# Altium integrated library Linear Technology Power Management Switching Regulator LTC1174-LTC3901.IntLib: 2647 symbols (part 304 of 364)
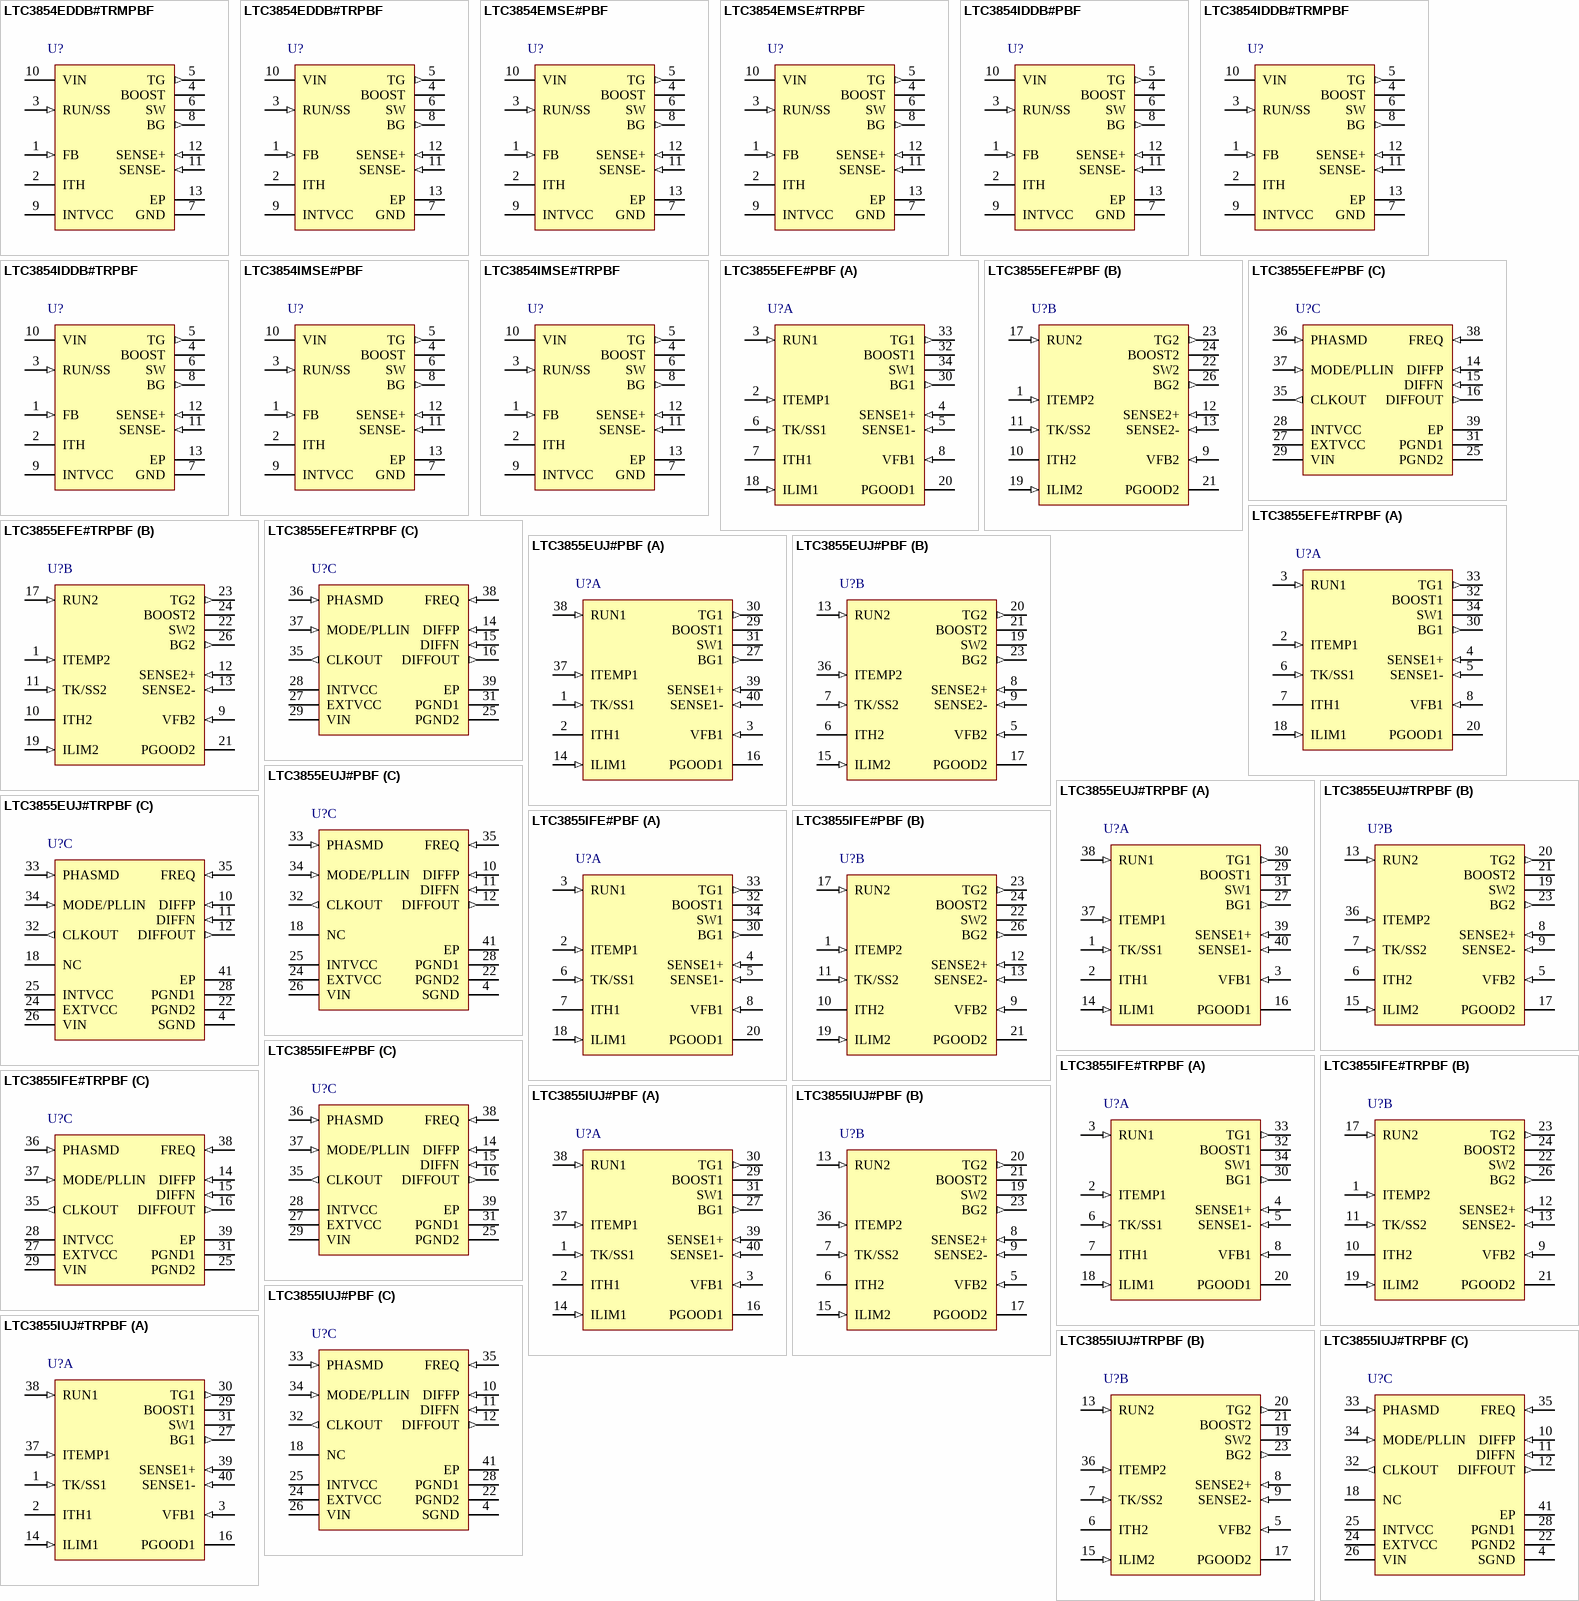
[diagram p274: symbols LTC3854EDDB#TRMPBF to LTC3855IUJ#TRPBF]

## LTC3855IFE#PBF
designator U?
Dual, Multiphase Synchronous DC/DC Controller with Differential Remote Sense, 38-pin SOP (FE-38-EPV-AA), -40 to 125 degC, Pb-Free; Manufacturer: Linear Technology; PartNumber: LTC3855IFE#PBF; Frequency Sync Range: 250kHz - 770kHz; Number of Outputs: 2; PackageVersion: Rev. C, 09/2010; PackageReference: FE-38; PackageDescription: 38-Pin Plastic TSSOP, Body 9.7 x 4.4 mm, Pitch 0.5 mm; Supplier 1: Digi-Key; Supplier Part Number 1: LTC3855IFE#PBF-ND; RoHS: TRUE; Mounting Technology: Surface Mount; ComponentLink1Description: Manufacturer URL; ComponentLink1URL: http://www.linear.com/; ComponentLink2Description: Datasheet; ComponentLink2URL: http://cds.linear.com/docs/en/datasheet/3855f.pdf; ComponentLink3Description: Package Specification; ComponentLink3URL: http://cds.linear.com/docs/en/packaging/TSSOP_38_05-08-1772.pdf
footprint LT-FE-38-EPV-AA_N (SOP, 38-Leads, Body 9.8x4.5mm, Pitch 0.5mm, Thermal Pad 4.75x2.74mm, IPC Medium Density)
footprint LT-FE-38-EPV-AA_L (SOP, 38-Leads, Body 9.8x4.5mm, Pitch 0.5mm, Thermal Pad 4.75x2.74mm, IPC High Density)
footprint LT-FE-38-EPV-AA_M (SOP, 38-Leads, Body 9.8x4.5mm, Pitch 0.5mm, Thermal Pad 4.75x2.74mm, IPC Low Density)
part A pins: 2 ITEMP1 (in) "Inputs of the temperature sensing comparators. Connect each of these pins to external NTC resistors placed near inductors. Floating these pins disables the DCR temperature compensation function.", 3 RUN1 (in) "Run Control Inputs. A voltage above 1.2V on either pin turns on the IC. However, forcing either of these pins below 1.2V causes the IC to shut down the circuitry required for that particular channel. There are 1uA pull-up (See Datasheet)", 4 SENSE1+ (in) "Current Sense Comparator Inputs. The (+) inputs to the current comparators are normally connected to DCR sensing networks or current sensing resistors.", 5 SENSE1- (in) "Current Sense Comparator Inputs. The (-) inputs to the current comparators are connected to the outputs.", 6 TK/SS1 (in) "Output Voltage Tracking and Soft-Start Inputs. When one particular channel is configured to be the master of two channels, a capacitor to ground at this pin sets the ramp rate for the master channel’s output voltage. Whe(See Datasheet)", 7 ITH1 "Current Control Thresholds and Error Amplifier Compensation Points. Each associated channels?current comparator tripping threshold increases with its ITH control voltage.", 8 VFB1 (in) "Error Amplifier Feedback Inputs. These pins receive the remotely sensed feedback voltages for each channel from external resistive dividers across the outputs.", 18 ILIM1 (in) "Current Comparator Sense Voltage Range Inputs. This pin can be tied to SGND, tied to INTVCC or left floating to set the maximum current sense threshold for each comparator", 20 PGOOD1 (oc) "Power Good Indicator Output for Each Channel. Open drain logic out that is pulled to ground when either channel output exceeds +/-10% regulation window, after the internal 20us power bad mask timer expires.", 30 BG1 (out) "Bottom Gate Driver Outputs. These pins drive the gates of the bottom N-Channel MOSFETs between PGND and INTVCC", 32 BOOST1 "Boosted Floating Driver Supplies. The (+) terminal of the bootstrap capacitors connect to these pins. These pins swing from a diode voltage drop below INTVCC up to VIN + INTVCC", 33 TG1 (out) "Top Gate Driver Outputs. These are the outputs of floating drivers with a voltage swing equal to INTVCC superimposed on the switch nodes voltages.", 34 SW1 "Switch Node Connections to Inductors. Voltage swing at these pins is from a Schottky diode (external) voltage drop below ground to VIN."
part B pins: 1 ITEMP2 (in) "Inputs of the temperature sensing comparators. Connect each of these pins to external NTC resistors placed near inductors. Floating these pins disables the DCR temperature compensation function.", 9 VFB2 (in) "Error Amplifier Feedback Inputs. These pins receive the remotely sensed feedback voltages for each channel from external resistive dividers across the outputs.", 10 ITH2 "Current Control Thresholds and Error Amplifier Compensation Points. Each associated channels?current comparator tripping threshold increases with its ITH control voltage.", 11 TK/SS2 (in) "Output Voltage Tracking and Soft-Start Inputs. When one particular channel is configured to be the master of two channels, a capacitor to ground at this pin sets the ramp rate for the master channel’s output voltage. Whe(See Datasheet)", 12 SENSE2+ (in) "Current Sense Comparator Inputs. The (+) inputs to the current comparators are normally connected to DCR sensing networks or current sensing resistors.", 13 SENSE2- (in) "Current Sense Comparator Inputs. The (-) inputs to the current comparators are connected to the outputs.", 17 RUN2 (in) "Run Control Inputs. A voltage above 1.2V on either pin turns on the IC. However, forcing either of these pins below 1.2V causes the IC to shut down the circuitry required for that particular channel. There are 1uA pull-up (See Datasheet)", 19 ILIM2 (in) "Current Comparator Sense Voltage Range Inputs. This pin can be tied to SGND, tied to INTVCC or left floating to set the maximum current sense threshold for each comparator", 21 PGOOD2 (oc) "Power Good Indicator Output for Each Channel. Open drain logic out that is pulled to ground when either channel output exceeds +/-10% regulation window, after the internal 20us power bad mask timer expires.", 22 SW2 "Switch Node Connections to Inductors. Voltage swing at these pins is from a Schottky diode (external) voltage drop below ground to VIN.", 23 TG2 (out) "Top Gate Driver Outputs. These are the outputs of floating drivers with a voltage swing equal to INTVCC superimposed on the switch nodes voltages.", 24 BOOST2 "Boosted Floating Driver Supplies. The (+) terminal of the bootstrap capacitors connect to these pins. These pins swing from a diode voltage drop below INTVCC up to VIN + INTVCC", 26 BG2 (out) "Bottom Gate Driver Outputs. These pins drive the gates of the bottom N-Channel MOSFETs between PGND and INTVCC"
part C pins: 14 DIFFP (in) "Positive Input of Remote Sensing Differential Amplifier. Connect this to the remote load voltage of one of the two channels directly.", 15 DIFFN (in) "Negative Input of Remote Sensing Differential Amplifier. Connect this to the negative terminal of the output capacitors.", 16 DIFFOUT (out) "Output of Remote Sensing Differential Amplifier. Connect this to VFB1 or VFB2 through a resistive divider.", 25 PGND2 (power) "Power Ground Pin. Connect this pin closely to the sources of the bottom N-channel MOSFETs, the (-) terminal of CVCC and the (-) terminal of CIN.", 27 EXTVCC (power) "External Power Input to an Internal Switch Connected to INTVCC. This switch closes and supplies the IC power, bypassing the internal low dropout regulator, whenever EXTVCC is higher than 4.7V. Do not exceed 6V on this pin.", 28 INTVCC (power) "Internal 5V Regulator Output. The control circuits are powered from this voltage. Decouple this pin to PGND with a minimum of 4.7uF low ESR tantalum or ceramic capacitor.", 29 VIN (power) "Main Input Supply. Decouple this pin to PGND with a capacitor (0.1uF to 1uF).", 31 PGND1 (power) "Power Ground Pin. Connect this pin closely to the sources of the bottom N-channel MOSFETs, the (-) terminal of CVCC and the (-) terminal of CIN.", 35 CLKOUT (out) "Clock output with phase changeable by PHASMD to enable usage of multiple LTC3855 in multiphase systems.", 36 PHASMD (in) "This pin can be tied to SGND, tied to INTVCC or left floating. This pin determines the relative phases between the internal controllers as well as the phasing of the CLKOUT signal. See Table 1 in the Operation section.", 37 MODE/PLLIN (in) "This is a dual purpose pin. When external frequency synchronization is not used, this pin selects the operating mode. The pin can be tied to SGND, tied to INTVCC or left floating. SGND enables forced continuous mode. INTVCC (See Datasheet)", 38 FREQ (in) "There is a precision 10uA current flowing out of this pin. A resistor to ground sets a voltage which in turn programs the frequency. Alternatively, this pin can be driven with a DC voltage to vary the frequency of the (See Datasheet)", 39 EP (power) "Signal Ground. All small-signal components and compensation components should connect to this ground, which in turn connects to PGND at one point. Exposed pad must be soldered to PCB, providing a local ground for the control (See Datasheet)"

## LTC3855IFE#TRPBF
designator U?
Dual, Multiphase Synchronous DC/DC Controller with Differential Remote Sense, 38-pin SOP (FE-38-EPV-AA), -40 to 125 degC, Pb-Free, Tape and Reel; Manufacturer: Linear Technology; PartNumber: LTC3855IFE#TRPBF; Frequency Sync Range: 250kHz - 770kHz; Number of Outputs: 2; PackageVersion: Rev. C, 09/2010; PackageReference: FE-38; PackageDescription: 38-Pin Plastic TSSOP, Body 9.7 x 4.4 mm, Pitch 0.5 mm; Supplier 1: Digi-Key; Supplier Part Number 1: LTC3855IFE#TRPBF-ND; Packing: Tape and Reel; RoHS: TRUE; Mounting Technology: Surface Mount; ComponentLink1Description: Manufacturer URL; ComponentLink1URL: http://www.linear.com/; ComponentLink2Description: Datasheet; ComponentLink2URL: http://cds.linear.com/docs/en/datasheet/3855f.pdf; ComponentLink3Description: Package Specification; ComponentLink3URL: http://cds.linear.com/docs/en/packaging/TSSOP_38_05-08-1772.pdf
footprint LT-FE-38-EPV-AA_N (SOP, 38-Leads, Body 9.8x4.5mm, Pitch 0.5mm, Thermal Pad 4.75x2.74mm, IPC Medium Density)
footprint LT-FE-38-EPV-AA_L (SOP, 38-Leads, Body 9.8x4.5mm, Pitch 0.5mm, Thermal Pad 4.75x2.74mm, IPC High Density)
footprint LT-FE-38-EPV-AA_M (SOP, 38-Leads, Body 9.8x4.5mm, Pitch 0.5mm, Thermal Pad 4.75x2.74mm, IPC Low Density)
part A pins: 2 ITEMP1 (in) "Inputs of the temperature sensing comparators. Connect each of these pins to external NTC resistors placed near inductors. Floating these pins disables the DCR temperature compensation function.", 3 RUN1 (in) "Run Control Inputs. A voltage above 1.2V on either pin turns on the IC. However, forcing either of these pins below 1.2V causes the IC to shut down the circuitry required for that particular channel. There are 1uA pull-up (See Datasheet)", 4 SENSE1+ (in) "Current Sense Comparator Inputs. The (+) inputs to the current comparators are normally connected to DCR sensing networks or current sensing resistors.", 5 SENSE1- (in) "Current Sense Comparator Inputs. The (-) inputs to the current comparators are connected to the outputs.", 6 TK/SS1 (in) "Output Voltage Tracking and Soft-Start Inputs. When one particular channel is configured to be the master of two channels, a capacitor to ground at this pin sets the ramp rate for the master channel’s output voltage. Whe(See Datasheet)", 7 ITH1 "Current Control Thresholds and Error Amplifier Compensation Points. Each associated channels?current comparator tripping threshold increases with its ITH control voltage.", 8 VFB1 (in) "Error Amplifier Feedback Inputs. These pins receive the remotely sensed feedback voltages for each channel from external resistive dividers across the outputs.", 18 ILIM1 (in) "Current Comparator Sense Voltage Range Inputs. This pin can be tied to SGND, tied to INTVCC or left floating to set the maximum current sense threshold for each comparator", 20 PGOOD1 (oc) "Power Good Indicator Output for Each Channel. Open drain logic out that is pulled to ground when either channel output exceeds +/-10% regulation window, after the internal 20us power bad mask timer expires.", 30 BG1 (out) "Bottom Gate Driver Outputs. These pins drive the gates of the bottom N-Channel MOSFETs between PGND and INTVCC", 32 BOOST1 "Boosted Floating Driver Supplies. The (+) terminal of the bootstrap capacitors connect to these pins. These pins swing from a diode voltage drop below INTVCC up to VIN + INTVCC", 33 TG1 (out) "Top Gate Driver Outputs. These are the outputs of floating drivers with a voltage swing equal to INTVCC superimposed on the switch nodes voltages.", 34 SW1 "Switch Node Connections to Inductors. Voltage swing at these pins is from a Schottky diode (external) voltage drop below ground to VIN."
part B pins: 1 ITEMP2 (in) "Inputs of the temperature sensing comparators. Connect each of these pins to external NTC resistors placed near inductors. Floating these pins disables the DCR temperature compensation function.", 9 VFB2 (in) "Error Amplifier Feedback Inputs. These pins receive the remotely sensed feedback voltages for each channel from external resistive dividers across the outputs.", 10 ITH2 "Current Control Thresholds and Error Amplifier Compensation Points. Each associated channels?current comparator tripping threshold increases with its ITH control voltage.", 11 TK/SS2 (in) "Output Voltage Tracking and Soft-Start Inputs. When one particular channel is configured to be the master of two channels, a capacitor to ground at this pin sets the ramp rate for the master channel’s output voltage. Whe(See Datasheet)", 12 SENSE2+ (in) "Current Sense Comparator Inputs. The (+) inputs to the current comparators are normally connected to DCR sensing networks or current sensing resistors.", 13 SENSE2- (in) "Current Sense Comparator Inputs. The (-) inputs to the current comparators are connected to the outputs.", 17 RUN2 (in) "Run Control Inputs. A voltage above 1.2V on either pin turns on the IC. However, forcing either of these pins below 1.2V causes the IC to shut down the circuitry required for that particular channel. There are 1uA pull-up (See Datasheet)", 19 ILIM2 (in) "Current Comparator Sense Voltage Range Inputs. This pin can be tied to SGND, tied to INTVCC or left floating to set the maximum current sense threshold for each comparator", 21 PGOOD2 (oc) "Power Good Indicator Output for Each Channel. Open drain logic out that is pulled to ground when either channel output exceeds +/-10% regulation window, after the internal 20us power bad mask timer expires.", 22 SW2 "Switch Node Connections to Inductors. Voltage swing at these pins is from a Schottky diode (external) voltage drop below ground to VIN.", 23 TG2 (out) "Top Gate Driver Outputs. These are the outputs of floating drivers with a voltage swing equal to INTVCC superimposed on the switch nodes voltages.", 24 BOOST2 "Boosted Floating Driver Supplies. The (+) terminal of the bootstrap capacitors connect to these pins. These pins swing from a diode voltage drop below INTVCC up to VIN + INTVCC", 26 BG2 (out) "Bottom Gate Driver Outputs. These pins drive the gates of the bottom N-Channel MOSFETs between PGND and INTVCC"
part C pins: 14 DIFFP (in) "Positive Input of Remote Sensing Differential Amplifier. Connect this to the remote load voltage of one of the two channels directly.", 15 DIFFN (in) "Negative Input of Remote Sensing Differential Amplifier. Connect this to the negative terminal of the output capacitors.", 16 DIFFOUT (out) "Output of Remote Sensing Differential Amplifier. Connect this to VFB1 or VFB2 through a resistive divider.", 25 PGND2 (power) "Power Ground Pin. Connect this pin closely to the sources of the bottom N-channel MOSFETs, the (-) terminal of CVCC and the (-) terminal of CIN.", 27 EXTVCC (power) "External Power Input to an Internal Switch Connected to INTVCC. This switch closes and supplies the IC power, bypassing the internal low dropout regulator, whenever EXTVCC is higher than 4.7V. Do not exceed 6V on this pin.", 28 INTVCC (power) "Internal 5V Regulator Output. The control circuits are powered from this voltage. Decouple this pin to PGND with a minimum of 4.7uF low ESR tantalum or ceramic capacitor.", 29 VIN (power) "Main Input Supply. Decouple this pin to PGND with a capacitor (0.1uF to 1uF).", 31 PGND1 (power) "Power Ground Pin. Connect this pin closely to the sources of the bottom N-channel MOSFETs, the (-) terminal of CVCC and the (-) terminal of CIN.", 35 CLKOUT (out) "Clock output with phase changeable by PHASMD to enable usage of multiple LTC3855 in multiphase systems.", 36 PHASMD (in) "This pin can be tied to SGND, tied to INTVCC or left floating. This pin determines the relative phases between the internal controllers as well as the phasing of the CLKOUT signal. See Table 1 in the Operation section.", 37 MODE/PLLIN (in) "This is a dual purpose pin. When external frequency synchronization is not used, this pin selects the operating mode. The pin can be tied to SGND, tied to INTVCC or left floating. SGND enables forced continuous mode. INTVCC (See Datasheet)", 38 FREQ (in) "There is a precision 10uA current flowing out of this pin. A resistor to ground sets a voltage which in turn programs the frequency. Alternatively, this pin can be driven with a DC voltage to vary the frequency of the (See Datasheet)", 39 EP (power) "Signal Ground. All small-signal components and compensation components should connect to this ground, which in turn connects to PGND at one point. Exposed pad must be soldered to PCB, providing a local ground for the control (See Datasheet)"

## LTC3855IUJ#PBF
designator U?
Dual, Multiphase Synchronous DC/DC Controller with Differential Remote Sense, 40-pin QFN (UJ-40), -40 to 125 degC, Pb-Free; Manufacturer: Linear Technology; PartNumber: LTC3855IUJ#PBF; Frequency Sync Range: 250kHz - 770kHz; Number of Outputs: 2; PackageVersion: Rev. Ø, 06/2010; PackageReference: UJ-40; PackageDescription: 40-Pin Plastic QFN, Body 6 x 6 mm, Pitch 0.5 mm; Supplier 1: Digi-Key; Supplier Part Number 1: LTC3855IUJ#PBF-ND; Supplier 2: Newark; Supplier Part Number 2: 72R5699; RoHS: TRUE; Mounting Technology: Surface Mount; ComponentLink1Description: Manufacturer URL; ComponentLink1URL: http://www.linear.com/; ComponentLink2Description: Datasheet; ComponentLink2URL: http://cds.linear.com/docs/en/datasheet/3855f.pdf; ComponentLink3Description: Package Specification; ComponentLink3URL: http://cds.linear.com/docs/en/packaging/QFN_40_05-08-1728.pdf
footprint LT-UJ-40_N (QFN, 40-Leads, Body 6.1x6.1mm, Pitch 0.5mm, Thermal Pad 4.42x4.42mm, IPC Medium Density)
footprint LT-UJ-40_L (QFN, 40-Leads, Body 6.1x6.1mm, Pitch 0.5mm, Thermal Pad 4.42x4.42mm, IPC High Density)
footprint LT-UJ-40_M (QFN, 40-Leads, Body 6.1x6.1mm, Pitch 0.5mm, Thermal Pad 4.42x4.42mm, IPC Low Density)
part A pins: 1 TK/SS1 (in) "Output Voltage Tracking and Soft-Start Inputs. When one particular channel is configured to be the master of two channels, a capacitor to ground at this pin sets the ramp rate for the master channel’s output voltage. Whe(See Datasheet)", 2 ITH1 "Current Control Thresholds and Error Amplifier Compensation Points. Each associated channels’ current comparator tripping threshold increases with its ITH control voltage.", 3 VFB1 (in) "Error Amplifier Feedback Inputs. These pins receive the remotely sensed feedback voltages for each channel from external resistive dividers across the outputs.", 14 ILIM1 (in) "Current Comparator Sense Voltage Range Inputs. This pin can be tied to SGND, tied to INTVCC or left floating to set the maximum current sense threshold for each comparator", 16 PGOOD1 (oc) "Power Good Indicator Output for Each Channel. Open drain logic out that is pulled to ground when either channel output exceeds +/-10% regulation window, after the internal 20us power bad mask timer expires.", 27 BG1 (out) "Bottom Gate Driver Outputs. These pins drive the gates of the bottom N-Channel MOSFETs between PGND and INTVCC", 29 BOOST1 "Boosted Floating Driver Supplies. The (+) terminal of the bootstrap capacitors connect to these pins. These pins swing from a diode voltage drop below INTVCC up to VIN + INTVCC", 30 TG1 (out) "Top Gate Driver Outputs. These are the outputs of floating drivers with a voltage swing equal to INTVCC superimposed on the switch nodes voltages.", 31 SW1 "Switch Node Connections to Inductors. Voltage swing at these pins is from a Schottky diode (external) voltage drop below ground to VIN.", 37 ITEMP1 (in) "Inputs of the temperature sensing comparators. Connect each of these pins to external NTC resistors placed near inductors. Floating these pins disables the DCR temperature compensation function.", 38 RUN1 (in) "Run Control Inputs. A voltage above 1.2V on either pin turns on the IC. However, forcing either of these pins below 1.2V causes the IC to shut down the circuitry required for that particular channel. There are 1uA pull-up (See Datasheet)", 39 SENSE1+ (in) "Current Sense Comparator Inputs. The (+) inputs to the current comparators are normally connected to DCR sensing networks or current sensing resistors.", 40 SENSE1- (in) "Current Sense Comparator Inputs. The (-) inputs to the current comparators are connected to the outputs."
part B pins: 5 VFB2 (in) "Error Amplifier Feedback Inputs. These pins receive the remotely sensed feedback voltages for each channel from external resistive dividers across the outputs.", 6 ITH2 "Current Control Thresholds and Error Amplifier Compensation Points. Each associated channels’ current comparator tripping threshold increases with its ITH control voltage.", 7 TK/SS2 (in) "Output Voltage Tracking and Soft-Start Inputs. When one particular channel is configured to be the master of two channels, a capacitor to ground at this pin sets the ramp rate for the master channel’s output voltage. Whe(See Datasheet)", 8 SENSE2+ (in) "Current Sense Comparator Inputs. The (+) inputs to the current comparators are normally connected to DCR sensing networks or current sensing resistors.", 9 SENSE2- (in) "Current Sense Comparator Inputs. The (-) inputs to the current comparators are connected to the outputs.", 13 RUN2 (in) "Run Control Inputs. A voltage above 1.2V on either pin turns on the IC. However, forcing either of these pins below 1.2V causes the IC to shut down the circuitry required for that particular channel. There are 1uA pull-up (See Datasheet)", 15 ILIM2 (in) "Current Comparator Sense Voltage Range Inputs. This pin can be tied to SGND, tied to INTVCC or left floating to set the maximum current sense threshold for each comparator", 17 PGOOD2 (oc) "Power Good Indicator Output for Each Channel. Open drain logic out that is pulled to ground when either channel output exceeds +/-10% regulation window, after the internal 20us power bad mask timer expires.", 19 SW2 "Switch Node Connections to Inductors. Voltage swing at these pins is from a Schottky diode (external) voltage drop below ground to VIN.", 20 TG2 (out) "Top Gate Driver Outputs. These are the outputs of floating drivers with a voltage swing equal to INTVCC superimposed on the switch nodes voltages.", 21 BOOST2 "Boosted Floating Driver Supplies. The (+) terminal of the bootstrap capacitors connect to these pins. These pins swing from a diode voltage drop below INTVCC up to VIN + INTVCC", 23 BG2 (out) "Bottom Gate Driver Outputs. These pins drive the gates of the bottom N-Channel MOSFETs between PGND and INTVCC", 36 ITEMP2 (in) "Inputs of the temperature sensing comparators. Connect each of these pins to external NTC resistors placed near inductors. Floating these pins disables the DCR temperature compensation function."
part C pins: 4 SGND (power) "Signal Ground. All small-signal components and compensation components should connect to this ground, which in turn connects to PGND at one point. Exposed pad must be soldered to PCB, providing a local ground for the control (See Datasheet)", 10 DIFFP (in) "Positive Input of Remote Sensing Differential Amplifier. Connect this to the remote load voltage of one of the two channels directly.", 11 DIFFN (in) "Negative Input of Remote Sensing Differential Amplifier. Connect this to the negative terminal of the output capacitors.", 12 DIFFOUT (out) "Output of Remote Sensing Differential Amplifier. Connect this to VFB1 or VFB2 through a resistive divider.", 18 NC, 22 PGND2 (power) "Power Ground Pin. Connect this pin closely to the sources of the bottom N-channel MOSFETs, the (-) terminal of CVCC and the (-) terminal of CIN.", 24 EXTVCC (power) "External Power Input to an Internal Switch Connected to INTVCC. This switch closes and supplies the IC power, bypassing the internal low dropout regulator, whenever EXTVCC is higher than 4.7V. Do not exceed 6V on this pin.", 25 INTVCC (power) "Internal 5V Regulator Output. The control circuits are powered from this voltage. Decouple this pin to PGND with a minimum of 4.7uF low ESR tantalum or ceramic capacitor.", 26 VIN (power) "Main Input Supply. Decouple this pin to PGND with a capacitor (0.1uF to 1uF).", 28 PGND1 (power) "Power Ground Pin. Connect this pin closely to the sources of the bottom N-channel MOSFETs, the (-) terminal of CVCC and the (-) terminal of CIN.", 32 CLKOUT (out) "Clock output with phase changeable by PHASMD to enable usage of multiple LTC3855 in multiphase systems.", 33 PHASMD (in) "This pin can be tied to SGND, tied to INTVCC or left floating. This pin determines the relative phases between the internal controllers as well as the phasing of the CLKOUT signal. See Table 1 in the Operation section.", 34 MODE/PLLIN (in) "This is a dual purpose pin. When external frequency synchronization is not used, this pin selects the operating mode. The pin can be tied to SGND, tied to INTVCC or left floating. SGND enables forced continuous mode. INTVCC (See Datasheet)", 35 FREQ (in) "There is a precision 10uA current flowing out of this pin. A resistor to ground sets a voltage which in turn programs the frequency. Alternatively, this pin can be driven with a DC voltage to vary the frequency of the (See Datasheet)", 41 EP (power) "Signal Ground. All small-signal components and compensation components should connect to this ground, which in turn connects to PGND at one point. Exposed pad must be soldered to PCB, providing a local ground for the control (See Datasheet)"

## LTC3855IUJ#TRPBF
designator U?
Dual, Multiphase Synchronous DC/DC Controller with Differential Remote Sense, 40-pin QFN (UJ-40), -40 to 125 degC, Pb-Free, Tape and Reel; Manufacturer: Linear Technology; PartNumber: LTC3855IUJ#TRPBF; Frequency Sync Range: 250kHz - 770kHz; Number of Outputs: 2; PackageVersion: Rev. Ø, 06/2010; PackageReference: UJ-40; PackageDescription: 40-Pin Plastic QFN, Body 6 x 6 mm, Pitch 0.5 mm; Supplier 1: Digi-Key; Supplier Part Number 1: LTC3855IUJ#TRPBF-ND; Supplier 2: Newark; Supplier Part Number 2: 72R5700; Packing: Tape and Reel; RoHS: TRUE; Mounting Technology: Surface Mount; ComponentLink1Description: Manufacturer URL; ComponentLink1URL: http://www.linear.com/; ComponentLink2Description: Datasheet; ComponentLink2URL: http://cds.linear.com/docs/en/datasheet/3855f.pdf; ComponentLink3Description: Package Specification; ComponentLink3URL: http://cds.linear.com/docs/en/packaging/QFN_40_05-08-1728.pdf
footprint LT-UJ-40_N (QFN, 40-Leads, Body 6.1x6.1mm, Pitch 0.5mm, Thermal Pad 4.42x4.42mm, IPC Medium Density)
footprint LT-UJ-40_L (QFN, 40-Leads, Body 6.1x6.1mm, Pitch 0.5mm, Thermal Pad 4.42x4.42mm, IPC High Density)
footprint LT-UJ-40_M (QFN, 40-Leads, Body 6.1x6.1mm, Pitch 0.5mm, Thermal Pad 4.42x4.42mm, IPC Low Density)
part A pins: 1 TK/SS1 (in) "Output Voltage Tracking and Soft-Start Inputs. When one particular channel is configured to be the master of two channels, a capacitor to ground at this pin sets the ramp rate for the master channel’s output voltage. Whe(See Datasheet)", 2 ITH1 "Current Control Thresholds and Error Amplifier Compensation Points. Each associated channels’ current comparator tripping threshold increases with its ITH control voltage.", 3 VFB1 (in) "Error Amplifier Feedback Inputs. These pins receive the remotely sensed feedback voltages for each channel from external resistive dividers across the outputs.", 14 ILIM1 (in) "Current Comparator Sense Voltage Range Inputs. This pin can be tied to SGND, tied to INTVCC or left floating to set the maximum current sense threshold for each comparator", 16 PGOOD1 (oc) "Power Good Indicator Output for Each Channel. Open drain logic out that is pulled to ground when either channel output exceeds +/-10% regulation window, after the internal 20us power bad mask timer expires.", 27 BG1 (out) "Bottom Gate Driver Outputs. These pins drive the gates of the bottom N-Channel MOSFETs between PGND and INTVCC", 29 BOOST1 "Boosted Floating Driver Supplies. The (+) terminal of the bootstrap capacitors connect to these pins. These pins swing from a diode voltage drop below INTVCC up to VIN + INTVCC", 30 TG1 (out) "Top Gate Driver Outputs. These are the outputs of floating drivers with a voltage swing equal to INTVCC superimposed on the switch nodes voltages.", 31 SW1 "Switch Node Connections to Inductors. Voltage swing at these pins is from a Schottky diode (external) voltage drop below ground to VIN.", 37 ITEMP1 (in) "Inputs of the temperature sensing comparators. Connect each of these pins to external NTC resistors placed near inductors. Floating these pins disables the DCR temperature compensation function.", 38 RUN1 (in) "Run Control Inputs. A voltage above 1.2V on either pin turns on the IC. However, forcing either of these pins below 1.2V causes the IC to shut down the circuitry required for that particular channel. There are 1uA pull-up (See Datasheet)", 39 SENSE1+ (in) "Current Sense Comparator Inputs. The (+) inputs to the current comparators are normally connected to DCR sensing networks or current sensing resistors.", 40 SENSE1- (in) "Current Sense Comparator Inputs. The (-) inputs to the current comparators are connected to the outputs."
part B pins: 5 VFB2 (in) "Error Amplifier Feedback Inputs. These pins receive the remotely sensed feedback voltages for each channel from external resistive dividers across the outputs.", 6 ITH2 "Current Control Thresholds and Error Amplifier Compensation Points. Each associated channels’ current comparator tripping threshold increases with its ITH control voltage.", 7 TK/SS2 (in) "Output Voltage Tracking and Soft-Start Inputs. When one particular channel is configured to be the master of two channels, a capacitor to ground at this pin sets the ramp rate for the master channel’s output voltage. Whe(See Datasheet)", 8 SENSE2+ (in) "Current Sense Comparator Inputs. The (+) inputs to the current comparators are normally connected to DCR sensing networks or current sensing resistors.", 9 SENSE2- (in) "Current Sense Comparator Inputs. The (-) inputs to the current comparators are connected to the outputs.", 13 RUN2 (in) "Run Control Inputs. A voltage above 1.2V on either pin turns on the IC. However, forcing either of these pins below 1.2V causes the IC to shut down the circuitry required for that particular channel. There are 1uA pull-up (See Datasheet)", 15 ILIM2 (in) "Current Comparator Sense Voltage Range Inputs. This pin can be tied to SGND, tied to INTVCC or left floating to set the maximum current sense threshold for each comparator", 17 PGOOD2 (oc) "Power Good Indicator Output for Each Channel. Open drain logic out that is pulled to ground when either channel output exceeds +/-10% regulation window, after the internal 20us power bad mask timer expires.", 19 SW2 "Switch Node Connections to Inductors. Voltage swing at these pins is from a Schottky diode (external) voltage drop below ground to VIN.", 20 TG2 (out) "Top Gate Driver Outputs. These are the outputs of floating drivers with a voltage swing equal to INTVCC superimposed on the switch nodes voltages.", 21 BOOST2 "Boosted Floating Driver Supplies. The (+) terminal of the bootstrap capacitors connect to these pins. These pins swing from a diode voltage drop below INTVCC up to VIN + INTVCC", 23 BG2 (out) "Bottom Gate Driver Outputs. These pins drive the gates of the bottom N-Channel MOSFETs between PGND and INTVCC", 36 ITEMP2 (in) "Inputs of the temperature sensing comparators. Connect each of these pins to external NTC resistors placed near inductors. Floating these pins disables the DCR temperature compensation function."
part C pins: 4 SGND (power) "Signal Ground. All small-signal components and compensation components should connect to this ground, which in turn connects to PGND at one point. Exposed pad must be soldered to PCB, providing a local ground for the control (See Datasheet)", 10 DIFFP (in) "Positive Input of Remote Sensing Differential Amplifier. Connect this to the remote load voltage of one of the two channels directly.", 11 DIFFN (in) "Negative Input of Remote Sensing Differential Amplifier. Connect this to the negative terminal of the output capacitors.", 12 DIFFOUT (out) "Output of Remote Sensing Differential Amplifier. Connect this to VFB1 or VFB2 through a resistive divider.", 18 NC, 22 PGND2 (power) "Power Ground Pin. Connect this pin closely to the sources of the bottom N-channel MOSFETs, the (-) terminal of CVCC and the (-) terminal of CIN.", 24 EXTVCC (power) "External Power Input to an Internal Switch Connected to INTVCC. This switch closes and supplies the IC power, bypassing the internal low dropout regulator, whenever EXTVCC is higher than 4.7V. Do not exceed 6V on this pin.", 25 INTVCC (power) "Internal 5V Regulator Output. The control circuits are powered from this voltage. Decouple this pin to PGND with a minimum of 4.7uF low ESR tantalum or ceramic capacitor.", 26 VIN (power) "Main Input Supply. Decouple this pin to PGND with a capacitor (0.1uF to 1uF).", 28 PGND1 (power) "Power Ground Pin. Connect this pin closely to the sources of the bottom N-channel MOSFETs, the (-) terminal of CVCC and the (-) terminal of CIN.", 32 CLKOUT (out) "Clock output with phase changeable by PHASMD to enable usage of multiple LTC3855 in multiphase systems.", 33 PHASMD (in) "This pin can be tied to SGND, tied to INTVCC or left floating. This pin determines the relative phases between the internal controllers as well as the phasing of the CLKOUT signal. See Table 1 in the Operation section.", 34 MODE/PLLIN (in) "This is a dual purpose pin. When external frequency synchronization is not used, this pin selects the operating mode. The pin can be tied to SGND, tied to INTVCC or left floating. SGND enables forced continuous mode. INTVCC (See Datasheet)", 35 FREQ (in) "There is a precision 10uA current flowing out of this pin. A resistor to ground sets a voltage which in turn programs the frequency. Alternatively, this pin can be driven with a DC voltage to vary the frequency of the (See Datasheet)", 41 EP (power) "Signal Ground. All small-signal components and compensation components should connect to this ground, which in turn connects to PGND at one point. Exposed pad must be soldered to PCB, providing a local ground for the control (See Datasheet)"

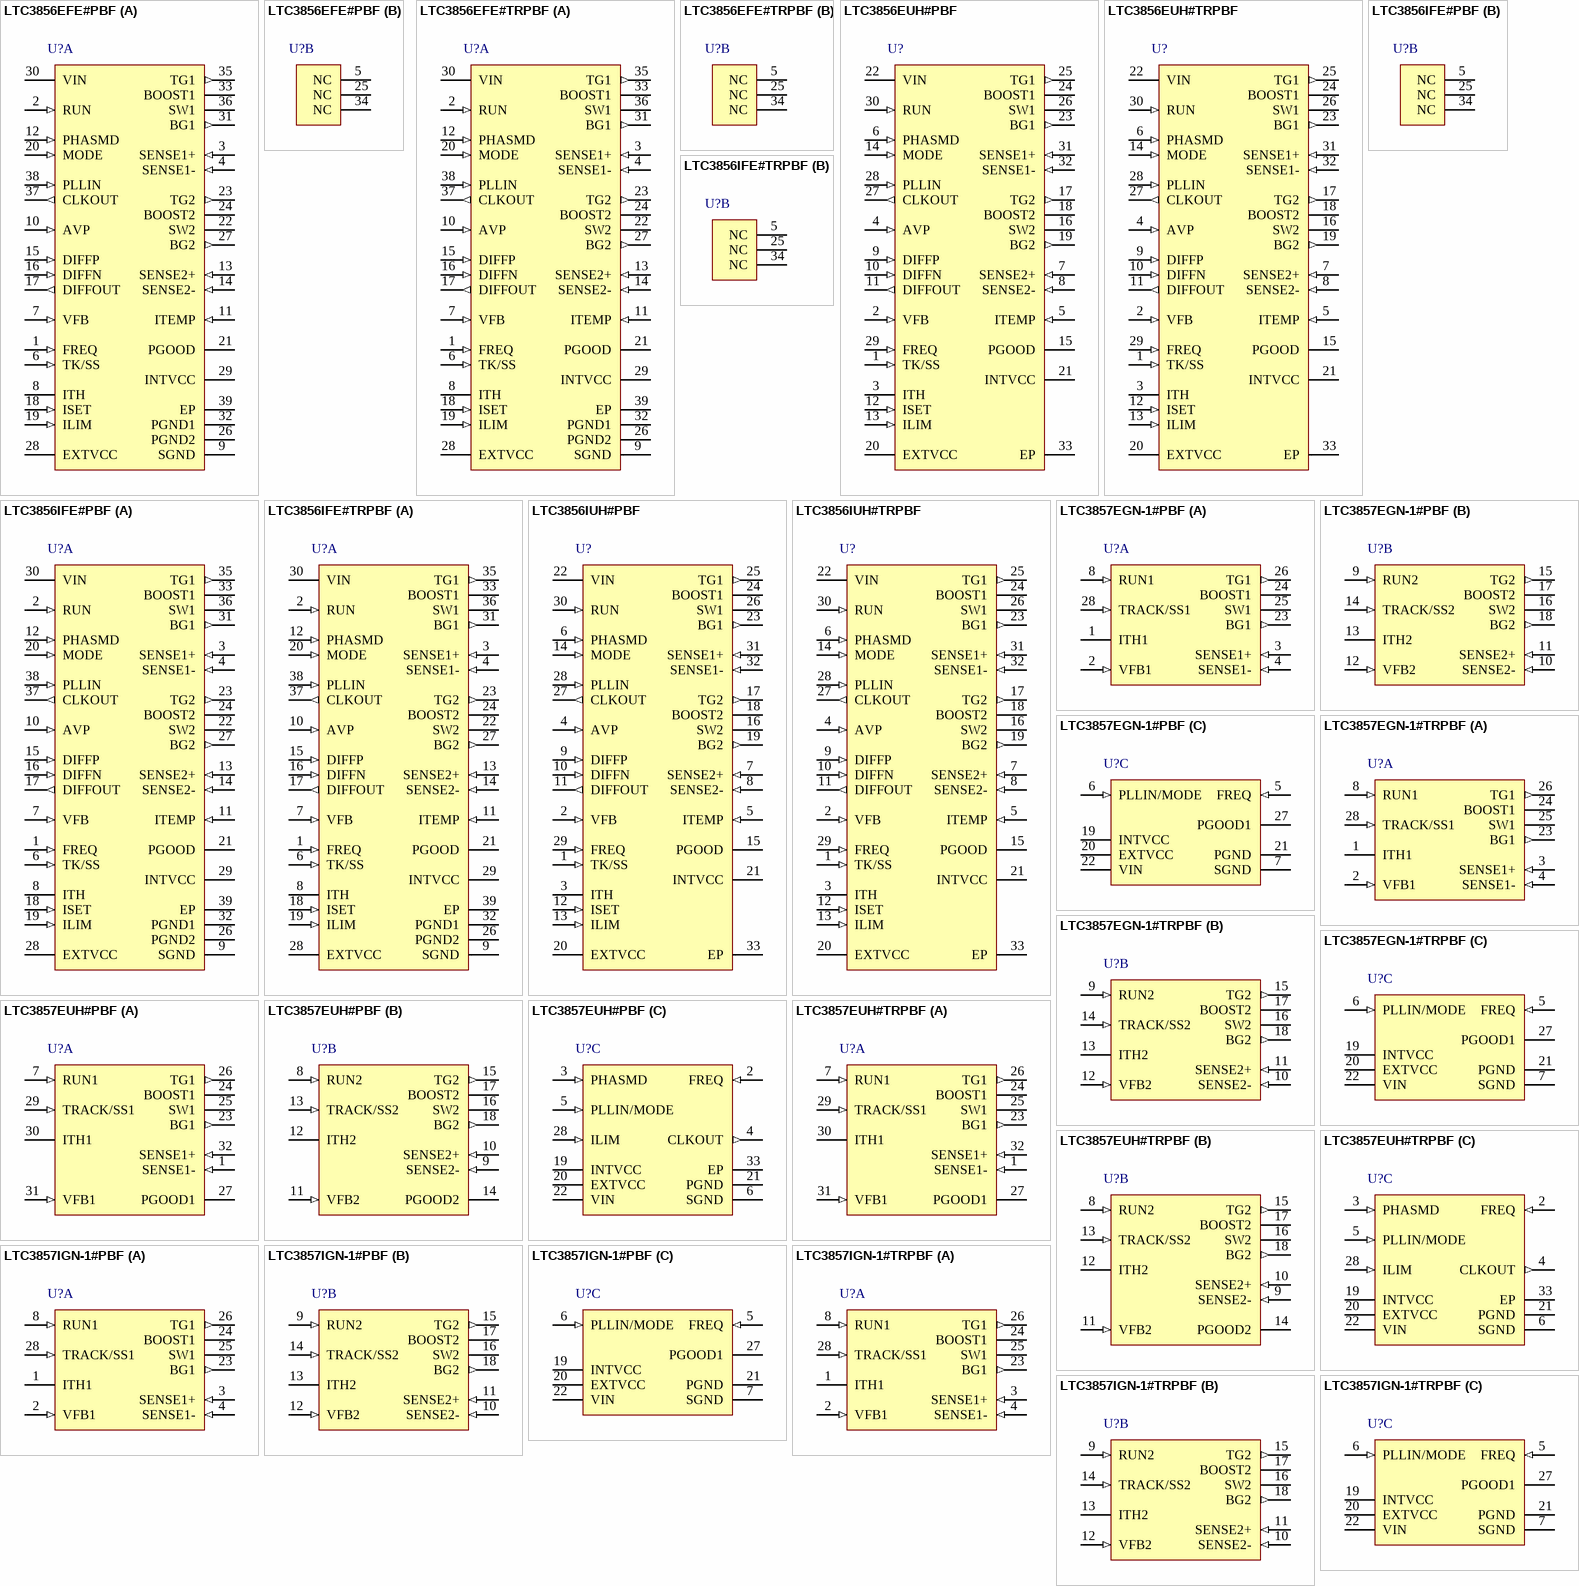
[diagram p95: symbols LTC3856EFE#PBF to LTC3857IGN-1#TRPBF]

## LTC3856EFE#PBF
designator U?
2-Phase Synchronous Step-Down DC/DC Controller with Differential Amplifier, 38-pin SOP (FE-38-EPV-AA), -40 to 125 degC, Pb-Free; Manufacturer: Linear Technology; PartNumber: LTC3856EFE#PBF; Frequency Sync Range: 250kHz - 770kHz; Number of Outputs: 1; PackageVersion: Rev. C, 09/2010; PackageReference: FE-38; PackageDescription: 38-Pin Plastic TSSOP, Body 9.7 x 4.4 mm, Pitch 0.5 mm; Supplier 1: Digi-Key; Supplier Part Number 1: LTC3856EFE#PBF-ND; Supplier 2: Farnell; Supplier Part Number 2: 1839101; Supplier 3: Newark; Supplier Part Number 3: 13T3950; RoHS: TRUE; Mounting Technology: Surface Mount; ComponentLink1Description: Manufacturer URL; ComponentLink1URL: http://www.linear.com/; ComponentLink2Description: Datasheet; ComponentLink2URL: http://cds.linear.com/docs/en/datasheet/3856f.pdf; ComponentLink3Description: Package Specification; ComponentLink3URL: http://cds.linear.com/docs/en/packaging/TSSOP_38_05-08-1772.pdf
footprint LT-FE-38-EPV-AA_N (SOP, 38-Leads, Body 9.8x4.5mm, Pitch 0.5mm, Thermal Pad 4.75x2.74mm, IPC Medium Density)
footprint LT-FE-38-EPV-AA_L (SOP, 38-Leads, Body 9.8x4.5mm, Pitch 0.5mm, Thermal Pad 4.75x2.74mm, IPC High Density)
footprint LT-FE-38-EPV-AA_M (SOP, 38-Leads, Body 9.8x4.5mm, Pitch 0.5mm, Thermal Pad 4.75x2.74mm, IPC Low Density)
part A pins: 1 FREQ (in) "Frequency Setting Pin. A resistor to ground sets the operating frequency of the controller. This pin can also be driven with a DC voltage to vary the frequency of the internal oscillator", 2 RUN (in) "Run Control Input. A voltage above 1.22V on this pin turns on the IC. There is a 1uA pull-up current for this pin. Once the RUN pin rises above 1.22V, an additional 4.5uA pull-up current is added to the pin.", 3 SENSE1+ (in) "Current Sense Comparator Inputs. The (+) inputs to the current comparators are normally connected to DCR sensing networks or current sensing resistors.", 4 SENSE1- (in) "Current Sense Comparator Inputs. The (-) inputs to the current comparators are connected to the outputs.", 6 TK/SS (in) "Output Voltage Tracking and SoftStart Input. When one particular IC is configured to be the master of two ICs, a capacitor to ground at this pin sets the ramp rate for the master IC’s output voltage. When the IC i(See Datasheet)", 7 VFB (in) "Error Amplifier Feedback Input. This pin receives the remotely sensed feedback voltage from an external resistive divider", 8 ITH "Current Control Threshold and Error Amplifier Compensation Point. Each associated channels?current comparator tripping threshold increases with ITH control voltage.", 9 SGND (power) "Signal Ground and Power Ground. All small-signal components and compensation components should connect to this ground, which in turn connects to PGND at one point.", 10 AVP (in) "Active Voltage Positioning Load Slope Programming Pin. A resistor between this pin and the DIFFP pin sets the load slope.", 11 ITEMP (in) "Input to the Temperature Sensing Circuit. Connect this pin to an external NTC (negative temperature coefficient) resistor placed near the heat source on the PCB board (e.g., inductors) changes the controller’s curren(See Datasheet)", 12 PHASMD (in) "Connect this pin to SGND, INTVCC, or float this pin to select the phase of CLKOUT to be 60degrees, 120degrees and 90degrees, respectively.", 13 SENSE2+ (in) "Current Sense Comparator Inputs. The (+) inputs to the current comparators are normally connected to DCR sensing networks or current sensing resistors.", 14 SENSE2- (in) "Current Sense Comparator Inputs. The (-) inputs to the current comparators are connected to the outputs.", 15 DIFFP (in) "Positive Input of Remote Sensing Differential Amplifier. Connect this directly to the remote load voltage.", 16 DIFFN (in) "Negative Input of Remote Sensing Differential Amplifier. Connect this pin to the negative terminal of output load capacitors.", 17 DIFFOUT (out) "Output of Remote Sensing Differential Amplifier. Connect this pin to VFB through a resistive divider.", 18 ISET (in) "Stage Shedding Mode Comparator and Burst Mode Comparator Programming Pin. A resistor to ground programs the threshold of the Stage Shedding mode comparator or Burst Mode comparator threshold and current limit.", 19 ILIM (in) "Current Comparator Sense Voltage Range Input. This pin is to be programmed to SGND, FLOAT or INTVCC to set the maximum current sense threshold to one of three different levels for both comparators.", 20 MODE (in) "Forced Continuous Mode, Burst Mode Operation or Stage Shedding Mode Selection Pin. Connect this pin to SGND to force IC in continuous mode of operation. Connect to INTVCC to enable Stage Shedding mode operation. Leaving the (See Datasheet)", 21 PGOOD (oc) "Power Good Indicator Output. Open-drain logic out that is pulled to ground when the output exceeds the +/-10% regulation window, after the internal 20us power-bad mask timer expires.", 22 SW2 "Switch Node Connections to Inductors. Voltage swing at these pins is from a Schottky diode (external) voltage drop below ground to VIN.", 23 TG2 (out) "Top Gate Driver Outputs. These are the outputs of floating drivers with a voltage swing equal to INTVCC superimposed on the switch nodes voltages.", 24 BOOST2 "Boosted Floating Driver Supplies. The (+) terminal of the bootstrap capacitors connect to these pins. These pins swing from a diode voltage drop below INTVCC up to VIN + INTVCC.", 26 PGND2 (power) "Power Ground Pin. Connect this pin closely to the sources of the bottom N-channel MOSFETs, the (-) terminal of CVCC and the (-) terminal of CIN.", 27 BG2 (out) "Bottom Gate Driver Outputs. These pins drive the gates of the bottom N-channel MOSFETs between INTVCC and PGND.", 28 EXTVCC (power) "rnal Power Input to an Internal Switch Connected to INTVCC. This switch closes and supplies the IC power, bypassing the internal low dropout regulator, whenever EXTVCC is higher than 4.7V. Do not exceed 6V on this pin and (See Datasheet)", 29 INTVCC (power) "Internal 5V Regulator Output. The control circuits are powered from this voltage. Decouple this pin to PGND with a minimum of 4.7uF low ESR tantalum or ceramic capacitor", 30 VIN (power) "Main Input Supply. Decouple this pin to PGND with a capacitor (0.1uF to 1uF).", 31 BG1 (out) "Bottom Gate Driver Outputs. These pins drive the gates of the bottom N-channel MOSFETs between INTVCC and PGND.", 32 PGND1 (power) "Power Ground Pin. Connect this pin closely to the sources of the bottom N-channel MOSFETs, the (-) terminal of CVCC and the (-) terminal of CIN.", 33 BOOST1 "Boosted Floating Driver Supplies. The (+) terminal of the bootstrap capacitors connect to these pins. These pins swing from a diode voltage drop below INTVCC up to VIN + INTVCC.", 35 TG1 (out) "Top Gate Driver Outputs. These are the outputs of floating drivers with a voltage swing equal to INTVCC superimposed on the switch nodes voltages.", 36 SW1 "Switch Node Connections to Inductors. Voltage swing at these pins is from a Schottky diode (external) voltage drop below ground to VIN.", 37 CLKOUT (out) "Clock output with phase changeable by PHASMD to enable usage of multiple LTC3856 ICs in multiphase systems.", 38 PLLIN (in) "External Synchronization Pin. A clock on the pin synchronizes the internal oscillator with the clock on this pin.", 39 EP (power) "exposed pad must be soldered to the PCB."
part B pins: 5 NC "No Connections.", 25 NC "No Connections.", 34 NC "No Connections."

## LTC3856EFE#TRPBF
designator U?
2-Phase Synchronous Step-Down DC/DC Controller with Differential Amplifier, 38-pin SOP (FE-38-EPV-AA), -40 to 125 degC, Pb-Free, Tape and Reel; Manufacturer: Linear Technology; PartNumber: LTC3856EFE#TRPBF; Frequency Sync Range: 250kHz - 770kHz; Number of Outputs: 1; PackageVersion: Rev. C, 09/2010; PackageReference: FE-38; PackageDescription: 38-Pin Plastic TSSOP, Body 9.7 x 4.4 mm, Pitch 0.5 mm; Supplier 1: Digi-Key; Supplier Part Number 1: LTC3856EFE#TRPBF-ND; Packing: Tape and Reel; RoHS: TRUE; Mounting Technology: Surface Mount; ComponentLink1Description: Manufacturer URL; ComponentLink1URL: http://www.linear.com/; ComponentLink2Description: Datasheet; ComponentLink2URL: http://cds.linear.com/docs/en/datasheet/3856f.pdf; ComponentLink3Description: Package Specification; ComponentLink3URL: http://cds.linear.com/docs/en/packaging/TSSOP_38_05-08-1772.pdf
footprint LT-FE-38-EPV-AA_N (SOP, 38-Leads, Body 9.8x4.5mm, Pitch 0.5mm, Thermal Pad 4.75x2.74mm, IPC Medium Density)
footprint LT-FE-38-EPV-AA_L (SOP, 38-Leads, Body 9.8x4.5mm, Pitch 0.5mm, Thermal Pad 4.75x2.74mm, IPC High Density)
footprint LT-FE-38-EPV-AA_M (SOP, 38-Leads, Body 9.8x4.5mm, Pitch 0.5mm, Thermal Pad 4.75x2.74mm, IPC Low Density)
part A pins: 1 FREQ (in) "Frequency Setting Pin. A resistor to ground sets the operating frequency of the controller. This pin can also be driven with a DC voltage to vary the frequency of the internal oscillator", 2 RUN (in) "Run Control Input. A voltage above 1.22V on this pin turns on the IC. There is a 1uA pull-up current for this pin. Once the RUN pin rises above 1.22V, an additional 4.5uA pull-up current is added to the pin.", 3 SENSE1+ (in) "Current Sense Comparator Inputs. The (+) inputs to the current comparators are normally connected to DCR sensing networks or current sensing resistors.", 4 SENSE1- (in) "Current Sense Comparator Inputs. The (-) inputs to the current comparators are connected to the outputs.", 6 TK/SS (in) "Output Voltage Tracking and SoftStart Input. When one particular IC is configured to be the master of two ICs, a capacitor to ground at this pin sets the ramp rate for the master IC’s output voltage. When the IC i(See Datasheet)", 7 VFB (in) "Error Amplifier Feedback Input. This pin receives the remotely sensed feedback voltage from an external resistive divider", 8 ITH "Current Control Threshold and Error Amplifier Compensation Point. Each associated channels?current comparator tripping threshold increases with ITH control voltage.", 9 SGND (power) "Signal Ground and Power Ground. All small-signal components and compensation components should connect to this ground, which in turn connects to PGND at one point.", 10 AVP (in) "Active Voltage Positioning Load Slope Programming Pin. A resistor between this pin and the DIFFP pin sets the load slope.", 11 ITEMP (in) "Input to the Temperature Sensing Circuit. Connect this pin to an external NTC (negative temperature coefficient) resistor placed near the heat source on the PCB board (e.g., inductors) changes the controller’s curren(See Datasheet)", 12 PHASMD (in) "Connect this pin to SGND, INTVCC, or float this pin to select the phase of CLKOUT to be 60degrees, 120degrees and 90degrees, respectively.", 13 SENSE2+ (in) "Current Sense Comparator Inputs. The (+) inputs to the current comparators are normally connected to DCR sensing networks or current sensing resistors.", 14 SENSE2- (in) "Current Sense Comparator Inputs. The (-) inputs to the current comparators are connected to the outputs.", 15 DIFFP (in) "Positive Input of Remote Sensing Differential Amplifier. Connect this directly to the remote load voltage.", 16 DIFFN (in) "Negative Input of Remote Sensing Differential Amplifier. Connect this pin to the negative terminal of output load capacitors.", 17 DIFFOUT (out) "Output of Remote Sensing Differential Amplifier. Connect this pin to VFB through a resistive divider.", 18 ISET (in) "Stage Shedding Mode Comparator and Burst Mode Comparator Programming Pin. A resistor to ground programs the threshold of the Stage Shedding mode comparator or Burst Mode comparator threshold and current limit.", 19 ILIM (in) "Current Comparator Sense Voltage Range Input. This pin is to be programmed to SGND, FLOAT or INTVCC to set the maximum current sense threshold to one of three different levels for both comparators.", 20 MODE (in) "Forced Continuous Mode, Burst Mode Operation or Stage Shedding Mode Selection Pin. Connect this pin to SGND to force IC in continuous mode of operation. Connect to INTVCC to enable Stage Shedding mode operation. Leaving the (See Datasheet)", 21 PGOOD (oc) "Power Good Indicator Output. Open-drain logic out that is pulled to ground when the output exceeds the +/-10% regulation window, after the internal 20us power-bad mask timer expires.", 22 SW2 "Switch Node Connections to Inductors. Voltage swing at these pins is from a Schottky diode (external) voltage drop below ground to VIN.", 23 TG2 (out) "Top Gate Driver Outputs. These are the outputs of floating drivers with a voltage swing equal to INTVCC superimposed on the switch nodes voltages.", 24 BOOST2 "Boosted Floating Driver Supplies. The (+) terminal of the bootstrap capacitors connect to these pins. These pins swing from a diode voltage drop below INTVCC up to VIN + INTVCC.", 26 PGND2 (power) "Power Ground Pin. Connect this pin closely to the sources of the bottom N-channel MOSFETs, the (-) terminal of CVCC and the (-) terminal of CIN.", 27 BG2 (out) "Bottom Gate Driver Outputs. These pins drive the gates of the bottom N-channel MOSFETs between INTVCC and PGND.", 28 EXTVCC (power) "rnal Power Input to an Internal Switch Connected to INTVCC. This switch closes and supplies the IC power, bypassing the internal low dropout regulator, whenever EXTVCC is higher than 4.7V. Do not exceed 6V on this pin and (See Datasheet)", 29 INTVCC (power) "Internal 5V Regulator Output. The control circuits are powered from this voltage. Decouple this pin to PGND with a minimum of 4.7uF low ESR tantalum or ceramic capacitor", 30 VIN (power) "Main Input Supply. Decouple this pin to PGND with a capacitor (0.1uF to 1uF).", 31 BG1 (out) "Bottom Gate Driver Outputs. These pins drive the gates of the bottom N-channel MOSFETs between INTVCC and PGND.", 32 PGND1 (power) "Power Ground Pin. Connect this pin closely to the sources of the bottom N-channel MOSFETs, the (-) terminal of CVCC and the (-) terminal of CIN.", 33 BOOST1 "Boosted Floating Driver Supplies. The (+) terminal of the bootstrap capacitors connect to these pins. These pins swing from a diode voltage drop below INTVCC up to VIN + INTVCC.", 35 TG1 (out) "Top Gate Driver Outputs. These are the outputs of floating drivers with a voltage swing equal to INTVCC superimposed on the switch nodes voltages.", 36 SW1 "Switch Node Connections to Inductors. Voltage swing at these pins is from a Schottky diode (external) voltage drop below ground to VIN.", 37 CLKOUT (out) "Clock output with phase changeable by PHASMD to enable usage of multiple LTC3856 ICs in multiphase systems.", 38 PLLIN (in) "External Synchronization Pin. A clock on the pin synchronizes the internal oscillator with the clock on this pin.", 39 EP (power) "exposed pad must be soldered to the PCB."
part B pins: 5 NC "No Connections.", 25 NC "No Connections.", 34 NC "No Connections."